# EAGLE library part BNO055 (library alvaroferran)
The BNO055 is a System in Package (SiP), integrating a triaxial 14-bit accelerometer, a triaxial 16-bit gyroscope with a range of ±2000 degrees per second, a triaxial geomagnetic sensor and a 32-bit microcontroller running the companys BSX3.0 FusionLib software. At just 5.2 x 3.8 x 1.1?mm3, it is significantly smaller than comparable discrete or system-on-board solutions.
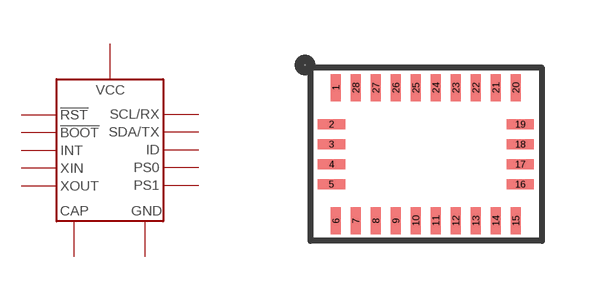
[diagram p0: symbol with the pads of BNO055; footprint BNO055]

Designator prefix U

## BNO055  [BNO055]
2  GND  pwr
3  VCC
4  BOOT
5  PS1
6  PS0
9  CAP
10  GND  pwr
11  RST
14  INT
15  GND  pwr
16  GND  pwr
17  ID
18  GND  pwr
19  SCL/RX
20  SDA/TX
25  GND  pwr
26  XOUT
27  XIN
28  VCC

## Footprint BNO055 (pad centres in mm)
smd 0.25 x 0.68: 1 -2.279,1.72; 6 -2.279,-1.606; 7 -1.779,-1.606; 8 -1.279,-1.606; 9 -0.779,-1.606; 10 -0.279,-1.606; 11 0.221,-1.606; 12 0.721,-1.606; 13 1.221,-1.606; 14 1.721,-1.606; 15 2.221,-1.606; 20 2.221,1.72; 21 1.721,1.72; 22 1.221,1.72; 23 0.721,1.72; 24 0.221,1.72; 25 -0.279,1.72; 26 -0.779,1.72; 27 -1.279,1.72; 28 -1.779,1.72
smd 0.68 x 0.25: 2 -2.387,0.809; 3 -2.387,0.309; 4 -2.387,-0.191; 5 -2.387,-0.691; 16 2.332,-0.692; 17 2.332,-0.192; 18 2.332,0.308; 19 2.332,0.808